# Altium footprint library LGA14.PcbLib: 1 footprints
Each footprint in its own frame and in the unit in brackets; x right, y up, seen from the top. Pads: shape width x height; smd on the part's side, far side on the other; paste and mask are expansions set on the pad; w line width, h text height; cw(c..) or ccw(c..) is an arc to the next point about the centre after c.
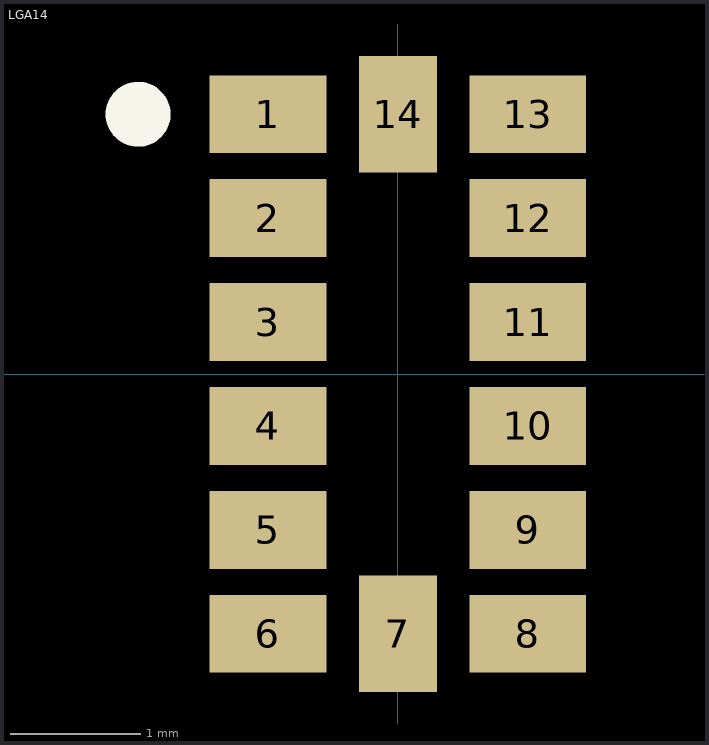
[diagram p0: the footprint, top view; thin cyan lines are the x and y axes]

## LGA14 [mm] "QFN, 14-Leads, Body 5,0x3,0mm (max), Pitch 0,80mm, IPC Medium Density"
height 1
pads (14):
  rect 0.9x0.6 smd paste+0 mask+0.05: 1(-1,2) 2(-1,1.2) 3(-1,0.4) 4(-1,-0.4) 5(-1,-1.2) 6(-1,-2) 8(1,-2) 9(1,-1.2) 10(1,-0.4) 11(1,0.4) 12(1,1.2) 13(1,2)
  rect 0.6x0.9 smd paste+0 mask+0.05: 7(0,-2) 14(0,2)
Top Overlay:
  circle w0.25: c-2,2 r0.125
3D body: height 1.03, standoff -0.4, extent -1.5,-2.5 1.5,2.5